# Altium schematic symbol library 数字集成电路1.SCHLIB: 4 symbols
Pins are listed as number, name and electrical type; pins without a type are passive.

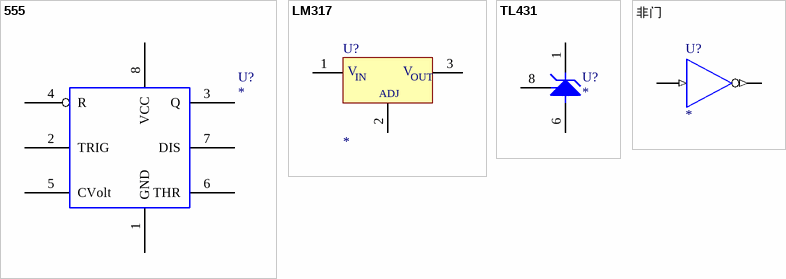
[diagram p0: symbols 555 to 非门]

## 555
designator U?
footprint DIP-8
pins: 1 GND, 2 TRIG, 3 Q, 4 R, 5 CVolt, 6 THR, 7 DIS, 8 VCC

## LM317
designator U?
3-Terminal Adjustable Positive Voltage Regulator
simulation model LM317 (SUBCKT)
pins: 1 VIN, 2 ADJ, 3 VOUT
text: V; IN; OUT

## TL431
designator U?
Adjustable Precision Shunt Regulator
footprint DIP-8
simulation model TL431 (SUBCKT)
pins: 1 K, 6 A, 8 R

## 非门
designator U?
Inverter
pins: 1 A (in), 2 Y (out)